# Altium footprint library Mypcblib.PcbLib: 4 footprints
Each footprint in its own frame and in the unit in brackets; x right, y up, seen from the top. Pads: shape width x height; smd on the part's side, far side on the other; paste and mask are expansions set on the pad; w line width, h text height; cw(c..) or ccw(c..) is an arc to the next point about the centre after c.
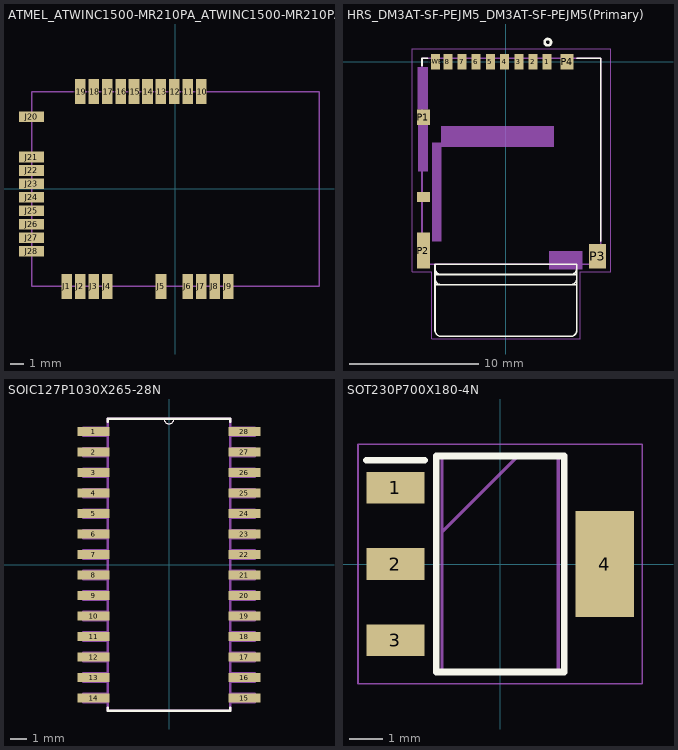
[diagram p0: the footprints below, top view; thin cyan lines are the x and y axes]

## ATMEL_ATWINC1500-MR210PA_ATWINC1500-MR210PA(Primary) [mm]
pads (28):
  rect 0.8x1.9 smd: J1(-8.189,-7.368) J2(-7.173,-7.368) J3(-6.157,-7.368) J4(-5.141,-7.368) J5(-1.077,-7.368) J6(0.955,-7.368) J7(1.971,-7.368) J8(2.987,-7.368) J9(4.003,-7.368) J10(1.962,7.362) J11(0.946,7.362) J12(-0.07,7.362) J13(-1.086,7.362) J14(-2.102,7.362) J15(-3.118,7.362) J16(-4.134,7.362) J17(-5.15,7.362) J18(-6.166,7.362) J19(-7.182,7.362)
  rect 1.9x0.8 smd: J20(-10.861,5.462) J21(-10.861,2.414) J22(-10.861,1.398) J23(-10.861,0.382) J24(-10.861,-0.634) J25(-10.861,-1.65) J26(-10.861,-2.666) J27(-10.861,-3.682) J28(-10.861,-4.698)
Mechanical 1:
  lines w0.1: -10.86,-7.365 10.86,-7.365 10.86,7.365 -10.86,7.365 -10.86,-7.365

## HRS_DM3AT-SF-PEJM5_DM3AT-SF-PEJM5(Primary) [mm]
pads (14):
  rect 0.7x1.2 smd: 1(3.2,0) 2(2.1,0) 3(1,0) 4(-0.1,0) 5(-1.2,0) 6(-2.3,0) 7(-3.4,0) 8(-4.5,0) SWB(-5.45,0)
  rect 1x1.2 smd: P1(-6.4,-4.3) P4(4.75,0)
  rect 1x2.8 smd: P2(-6.4,-14.65)
  rect 1.3x1.9 smd: P3(7.1,-15.1)
  rect 1x0.8 smd: SWA(-6.4,-10.5)
Top Overlay:
  circle w0.2: c3.25,1.5 r0.25
  lines w0.127: -6.5,-0.3 -6.5,0.25 -6.05,0.25 ; 5.5,0.25 7.35,0.25 7.35,-13.9 ; -5.5,-17.3 -5.5,-20.8 ccw(c-5,-20.8) -5,-21.3 5,-21.3 ccw(c5,-20.8) 5.5,-20.8 5.5,-17.3 ; -5.5,-17.3 -5.5,-16.8 ; -5.5,-17.3 -5,-17.3 ; -5.5,-16.8 ccw(c-5,-16.8) -5,-17.3 ; -5.5,-16.8 -5.5,-16.5 ; -5.5,-16.5 -5.5,-16 ; -5.5,-16.5 -5,-16.5 ; -5.5,-16 ccw(c-5,-16) -5,-16.5 ; -5.5,-16 -5.5,-15.7 5.5,-15.7 5.5,-16 ; -5,-17.3 5,-17.3 ; -5,-16.5 5,-16.5 ; 5,-17.3 ccw(c5,-16.8) 5.5,-16.8 ; 5,-17.3 5.5,-17.3 ; 5,-16.5 ccw(c5,-16) 5.5,-16 ; 5,-16.5 5.5,-16.5 ; 5.5,-17.3 5.5,-16.8 ; 5.5,-16.8 5.5,-16.5 ; 5.5,-16.5 5.5,-16
Mechanical 1:
  region: 3.356,-14.7 5.9,-14.7 5.9,-16.078 3.356,-16.078
  region: -5.006,-5 3.7,-5 3.7,-6.608 -5.006,-6.608
  region: -5.713,-6.3 -5,-6.3 -5,-13.932 -5.713,-13.932
  region: -6.81,-4.9 -6.05,-4.9 -6.05,-8.512 -6.81,-8.512
  region: -6.819,-0.45 -6.05,-0.45 -6.05,-3.71 -6.819,-3.71
  lines w0.05: -7.25,-16.3 -7.25,1 8.125,1 8.125,-16.3 5.75,-16.3 5.75,-21.5 -5.75,-21.5 -5.75,-16.3 -7.25,-16.3
  lines w0.127: -6.5,-15.7 -6.5,0.25 7.35,0.25 7.35,-15.7 -6.5,-15.7
  text "PCB Edge" at -4.763,-15.792 h1.88

## SOIC127P1030X265-28N [mil]
pads (28):
  rect 78x22 smd: 1(-184,325) 2(-184,275) 3(-184,225) 4(-184,175) 5(-184,125) 6(-184,75) 7(-184,25) 8(-184,-25) 9(-184,-75) 10(-184,-125) 11(-184,-175) 12(-184,-225) 13(-184,-275) 14(-184,-325) 15(184,-325) 16(184,-275) 17(184,-225) 18(184,-175) 19(184,-125) 20(184,-75) 21(184,-25) 22(184,25) 23(184,75) 24(184,125) 25(184,175) 26(184,225) 27(184,275) 28(184,325)
Top Overlay:
  lines w0: -12,356 ccw(c0,356) 12,356
  lines w6: -150,-349 -150,-356 150,-356 150,-349 ; -150,349 -150,356 -12,356 12,356 150,356 150,349
Mechanical 1:
  lines w0: -12,356 ccw(c0,356) 12,356
  lines w6: -209,-335 -209,-315 -150,-315 -150,-335 -209,-335 ; -209,-285 -209,-265 -150,-265 -150,-285 -209,-285 ; -209,-235 -209,-215 -150,-215 -150,-235 -209,-235 ; -209,-185 -209,-165 -150,-165 -150,-185 -209,-185 ; -209,-135 -209,-115 -150,-115 -150,-135 -209,-135 ; -209,-85 -209,-65 -150,-65 -150,-85 -209,-85 ; -209,-35 -209,-15 -150,-15 -150,-35 -209,-35 ; -209,15 -209,35 -150,35 -150,15 -209,15 ; -209,65 -209,85 -150,85 -150,65 -209,65 ; -209,115 -209,135 -150,135 -150,115 -209,115 ; -209,165 -209,185 -150,185 -150,165 -209,165 ; -209,215 -209,235 -150,235 -150,215 -209,215 ; -209,265 -209,285 -150,285 -150,265 -209,265 ; -209,315 -209,335 -150,335 -150,315 -209,315 ; -150,-356 150,-356 150,356 12,356 -12,356 -150,356 -150,-356 ; 150,-335 150,-315 209,-315 209,-335 150,-335 ; 150,-285 150,-265 209,-265 209,-285 150,-285 ; 150,-235 150,-215 209,-215 209,-235 150,-235 ; 150,-185 150,-165 209,-165 209,-185 150,-185 ; 150,-135 150,-115 209,-115 209,-135 150,-135 ; 150,-85 150,-65 209,-65 209,-85 150,-85 ; 150,-35 150,-15 209,-15 209,-35 150,-35 ; 150,15 150,35 209,35 209,15 150,15 ; 150,65 150,85 209,85 209,65 150,65 ; 150,115 150,135 209,135 209,115 150,115 ; 150,165 150,185 209,185 209,165 150,165 ; 150,215 150,235 209,235 209,215 150,215 ; 150,265 150,285 209,285 209,265 150,265 ; 150,315 150,335 209,335 209,315 150,315

## SOT230P700X180-4N [mm]
pads (4):
  rect 1.75x0.95 smd: 1(-3.15,2.3) 2(-3.15,0) 3(-3.15,-2.3)
  rect 1.75x3.2 smd: 4(3.15,0)
Top Overlay:
  lines w0.2: -4.025,3.125 -2.275,3.125 ; -1.925,-3.25 -1.925,3.25 1.925,3.25 1.925,-3.25 -1.925,-3.25
Mechanical 15:
  lines w0.1: -1.75,0.95 0.55,3.25 ; -1.75,-3.25 -1.75,3.25 1.75,3.25 1.75,-3.25 -1.75,-3.25
Mechanical 20:
  lines w0.05: -4.275,-3.6 -4.275,3.6 4.275,3.6 4.275,-3.6 -4.275,-3.6